# Altium schematic symbol library DIODE_ZENER.Schlib: 1 symbol
Pins are listed as number, name and electrical type; pins without a type are passive.

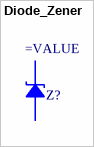
[diagram p0: symbol Diode_Zener]

## Diode_Zener
designator Z?
Zener Diode
pins: 1, 2